# Altium footprint library 890334023028.PcbLib: 1 footprints
Each footprint in its own frame and in the unit in brackets; x right, y up, seen from the top. Pads: shape width x height; smd on the part's side, far side on the other; paste and mask are expansions set on the pad; w line width, h text height; cw(c..) or ccw(c..) is an arc to the next point about the centre after c.
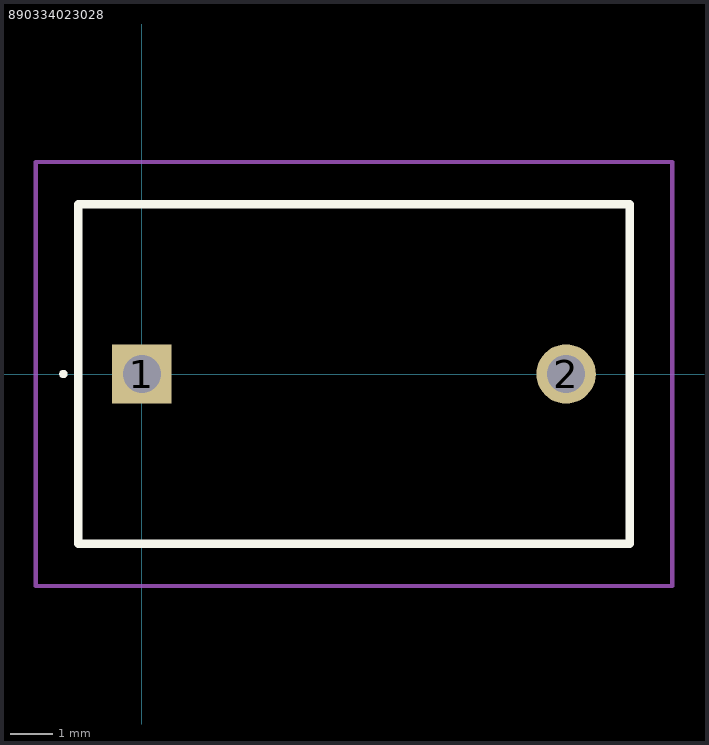
[diagram p0: the footprint, top view; thin cyan lines are the x and y axes]

## 890334023028 [mm]
pads (2):
  rect 1.4x1.4 hole 0.9: 1(0,0)
  round 1.4 hole 0.9: 2(10,0)
Top Overlay:
  lines w0.1: -1.9,0 ccw(c-1.85,0) -1.8,0 ccw(c-1.85,0) -1.9,0
  lines w0.2: -1.5,-4 -1.5,4 11.5,4 11.5,-4 -1.5,-4
Mechanical 15:
  lines w0.1: -1.5,-4 -1.5,4 11.5,4 11.5,-4 -1.5,-4
Mechanical 20:
  lines w0.1: -2.5,-5 -2.5,5 12.5,5 12.5,-5 -2.5,-5
3D body "890334023028.stp": height 14.6, standoff -5, extent -1.5,-4 11.5,4